# EAGLE library part SN74LVC1G27 (library epic)
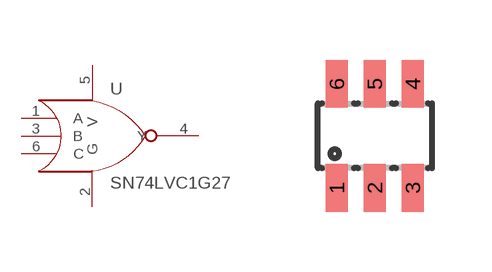
[diagram p9: symbol with the pads of SOT23-6; footprint SOT23-6]

Designator prefix U

## SN74LVC1G27  [SOT23-6]
1  A
2  G
3  B
4  Y
5  V
6  C

## Footprint SOT23-6 (pad centres in mm)
Small Outline Transistor
smd 0.55 x 1.2: 1 -0.95,-1.3; 2 0,-1.3; 3 0.95,-1.3; 4 0.95,1.3; 5 0,1.3; 6 -0.95,1.3